# Altium footprint library PcbLib1.PcbLib: 1 footprints
Each footprint in its own frame and in the unit in brackets; x right, y up, seen from the top. Pads: shape width x height; smd on the part's side, far side on the other; paste and mask are expansions set on the pad; w line width, h text height; cw(c..) or ccw(c..) is an arc to the next point about the centre after c.
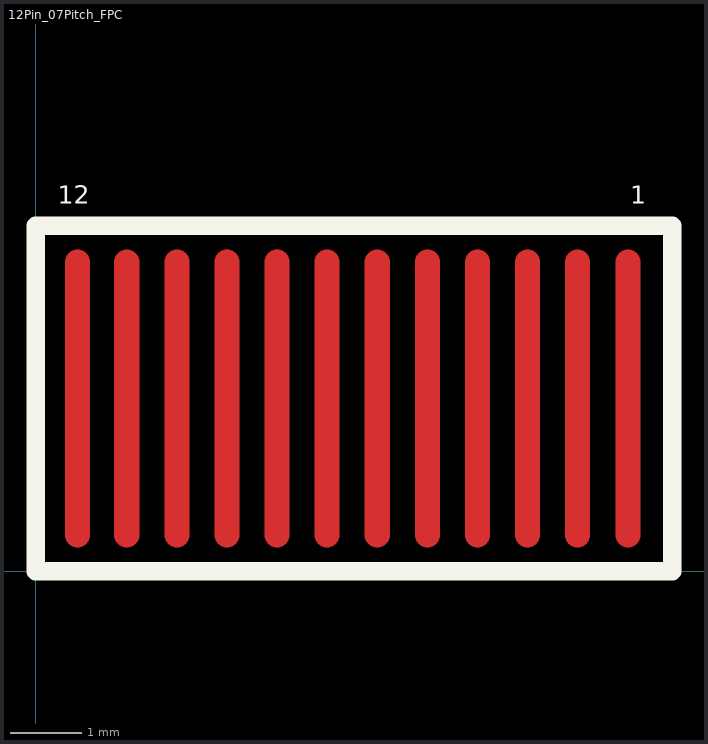
[diagram p0: the footprint, top view; thin cyan lines are the x and y axes]

## 12Pin_07Pitch_FPC [mm]
Top Layer:
  lines w0.35: 0.584,0.508 0.584,4.318 ; 1.27,0.508 1.27,4.318 ; 1.97,0.508 1.97,4.318 ; 2.67,0.508 2.67,4.318 ; 3.37,0.508 3.37,4.318 ; 4.07,0.508 4.07,4.318 ; 4.77,0.508 4.77,4.318 ; 5.47,0.508 5.47,4.318 ; 6.17,0.508 6.17,4.318 ; 6.87,0.508 6.87,4.318 ; 7.57,0.508 7.57,4.318 ; 8.27,0.508 8.27,4.318
Top Overlay:
  lines w0.254: 0,0 8.89,0 8.89,4.826 0,4.826 0,0
  text "1" at 8.306,5.131 h0.25
  text "12" at 0.305,5.131 h0.25